# EAGLE library part LFD080B**-103A (library LFD080)
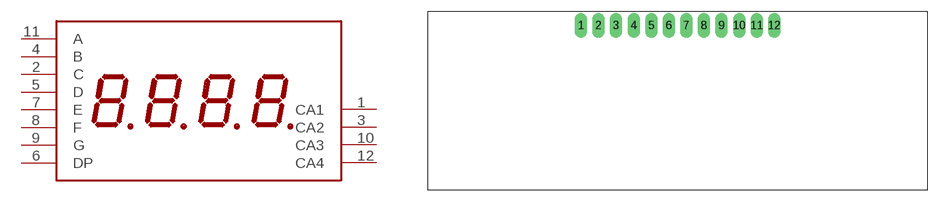
[diagram p0: symbol with the pads of 4X7CA; footprint 4X7CA]

Designator prefix -

## LFD080B-103A  [4X7CA]
1  CA1
2  C
3  CA2
4  B
5  D
6  DP
7  E
8  F
9  G
10  CA3
11  A
12  CA4

## Footprint 4X7CA (pad centres in mm)
WENRUN LFD080BUE-103A
drill 1 pad 1.8 long: 1 -13.97,0.002; 2 -11.43,0.002; 3 -8.89,0.002; 4 -6.35,0.002; 5 -3.81,0.002; 6 -1.27,0.002; 7 1.27,0.002; 8 3.81,0.002; 9 6.35,0.002; 10 8.89,0.002; 11 11.43,0.002; 12 13.97,0